# Altium footprint library WCAP-FTX2.PcbLib: 44 footprints (part 2 of 3)
Each footprint in its own frame and in the unit in brackets; x right, y up, seen from the top. Pads: shape width x height; smd on the part's side, far side on the other; paste and mask are expansions set on the pad; w line width, h text height; cw(c..) or ccw(c..) is an arc to the next point about the centre after c.
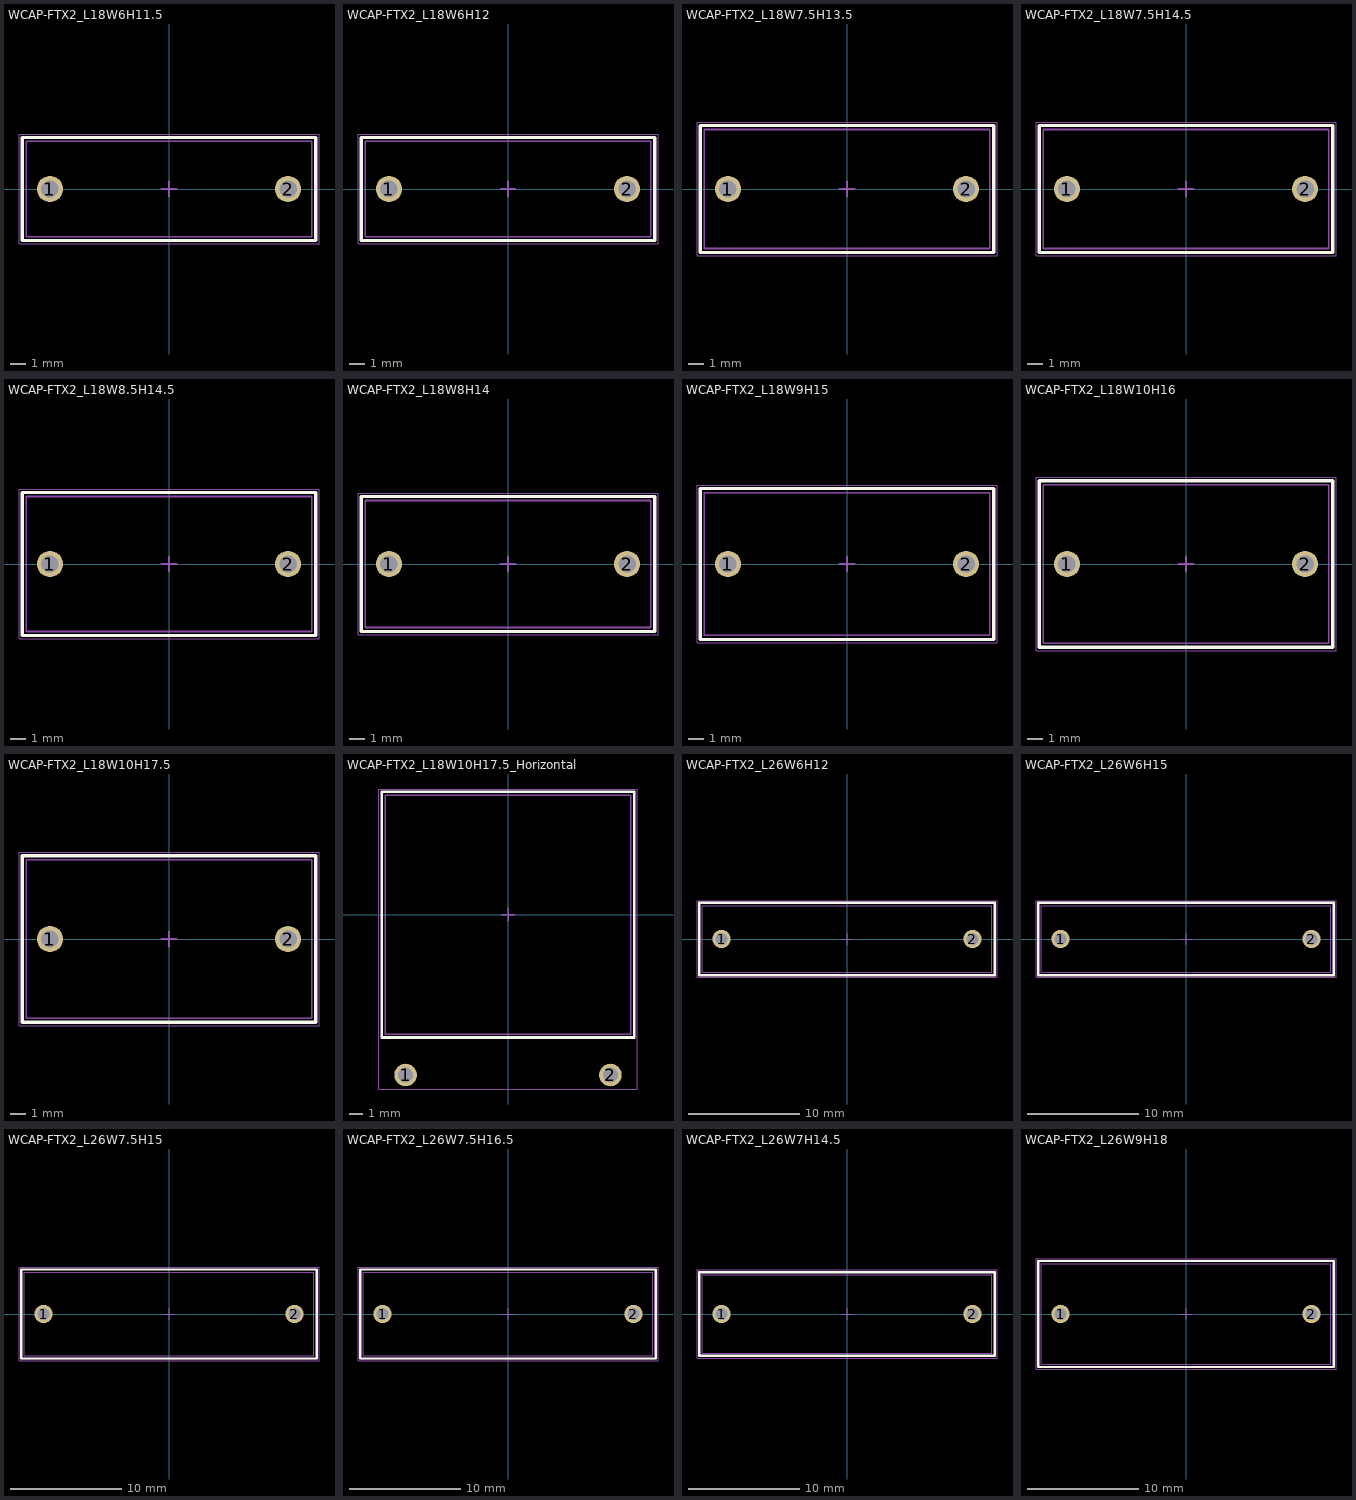
[diagram p1: the footprints below, top view; thin cyan lines are the x and y axes]

## WCAP-FTX2_L18W6H11.5 [mm] "Film Capacitors, 18x6x11.5mm"
height 11.5
pads (2):
  round 1.65 hole 1.1: 1(-7.5,0) 2(7.5,0)
Top Overlay:
  lines w0.2: -9.25,-3.25 9.25,-3.25 9.25,3.25 -9.25,3.25 -9.25,-3.25
Top Assembly:
  lines w0.1: -9.25,-3.25 9.25,-3.25 9.25,3.25 -9.25,3.25 -9.25,-3.25
Top Designator:
  text ".Designator" at -3.647,-0.357 h1
Top 3D Body:
  lines w0.1: -9,-3 9,-3 9,3 -9,3 -9,-3
Top Courtyard:
  lines w0.05: -9.45,-3.45 -9.45,3.45 9.45,3.45 9.45,-3.45 -9.45,-3.45
Top Component Center:
  lines w0.1: -0.5,0 0.5,0 ; 0,-0.5 0,0.5
3D body "15x18x6x11,5.stp": height 11.7, standoff -3.8, extent -9,-3 9,3

## WCAP-FTX2_L18W6H12 [mm] "Film Capacitors, 18x6x12mm"
height 12
pads (2):
  round 1.65 hole 1.1: 1(-7.5,0) 2(7.5,0)
Top Overlay:
  lines w0.2: -9.25,-3.25 -9.25,3.25 9.25,3.25 9.25,-3.25 -9.25,-3.25
Top Assembly:
  lines w0.1: -9.25,-3.25 -9.25,3.25 9.25,3.25 9.25,-3.25 -9.25,-3.25
Top Designator:
  text ".Designator" at -3.647,-0.357 h1
Top 3D Body:
  lines w0.1: -9,3 9,3 9,-3 -9,-3 -9,3
Top Courtyard:
  lines w0.05: -9.45,-3.45 -9.45,3.45 9.45,3.45 9.45,-3.45 -9.45,-3.45
Top Component Center:
  lines w0.1: -0.5,0 0.5,0 ; 0,-0.5 0,0.5
3D body "15x18x6x12.stp": height 12.2, standoff -3.8, extent -9,-3 9,3

## WCAP-FTX2_L18W7.5H13.5 [mm] "Film Capacitors, 18x7.5x13.5mm"
height 13.5
pads (2):
  round 1.65 hole 1.1: 1(-7.5,0) 2(7.5,0)
Top Overlay:
  lines w0.2: -9.25,-4 9.25,-4 9.25,4 -9.25,4 -9.25,-4
Top Assembly:
  lines w0.1: -9.25,-4 -9.25,4 9.25,4 9.25,-4 -9.25,-4
Top Designator:
  text ".Designator" at -3.647,-0.357 h1
Top 3D Body:
  lines w0.1: -9,-3.75 -9,3.75 9,3.75 9,-3.75 -9,-3.75
Top Courtyard:
  lines w0.05: -9.45,-4.2 9.45,-4.2 9.45,4.2 -9.45,4.2 -9.45,-4.2
Top Component Center:
  lines w0.1: -0.5,0 0.5,0 ; 0,-0.5 0,0.5
3D body "15x18x7,5x13,5.stp": height 13.7, standoff -3.8, extent -9,-3.75 9,3.75

## WCAP-FTX2_L18W7.5H14.5 [mm] "Film Capacitors, 18x7.5x14.5mm"
height 14.5
pads (2):
  round 1.65 hole 1.1: 1(-7.5,0) 2(7.5,0)
Top Overlay:
  lines w0.2: -9.25,-4 -9.25,4 9.25,4 9.25,-4 -9.25,-4
Top Assembly:
  lines w0.1: -9.25,-4 -9.25,4 9.25,4 9.25,-4 -9.25,-4
Top Designator:
  text ".Designator" at -3.647,-0.357 h1
Top 3D Body:
  lines w0.1: -9,-3.75 -9,3.75 9,3.75 9,-3.75 -9,-3.75
Top Courtyard:
  lines w0.05: -9.45,-4.2 -9.45,4.2 9.45,4.2 9.45,-4.2 -9.45,-4.2
Top Component Center:
  lines w0.1: -0.5,0 0.5,0 ; 0,-0.5 0,0.5
3D body "15x18x7,5x14,5.stp": height 14.7, standoff -3.8, extent -9,-3.75 9,3.75

## WCAP-FTX2_L18W8.5H14.5 [mm] "Film Capacitors, 18x8.5x14.5mm"
height 14.5
pads (2):
  round 1.65 hole 1.1: 1(-7.5,0) 2(7.5,0)
Top Overlay:
  lines w0.2: -9.25,-4.5 -9.25,4.5 9.25,4.5 9.25,-4.5 -9.25,-4.5
Top Assembly:
  lines w0.1: -9.25,-4.5 9.25,-4.5 9.25,4.5 -9.25,4.5 -9.25,-4.5
Top Designator:
  text ".Designator" at -3.647,-0.357 h1
Top 3D Body:
  lines w0.1: -9,-4.25 -9,4.25 9,4.25 9,-4.25 -9,-4.25
Top Courtyard:
  lines w0.05: -9.45,-4.7 -9.45,4.7 9.45,4.7 9.45,-4.7 -9.45,-4.7
Top Component Center:
  lines w0.1: -0.5,0 0.5,0 ; 0,-0.5 0,0.5
3D body "15x18x8,5x14,5.stp": height 14.7, standoff -3.8, extent -9,-4.25 9,4.25

## WCAP-FTX2_L18W8H14 [mm] "Film Capacitors, 18x8x14mm"
height 14
pads (2):
  round 1.65 hole 1.1: 1(-7.5,0) 2(7.5,0)
Top Overlay:
  lines w0.2: -9.25,-4.25 9.25,-4.25 9.25,4.25 -9.25,4.25 -9.25,-4.25
Top Assembly:
  lines w0.1: -9.25,-4.25 -9.25,4.25 9.25,4.25 9.25,-4.25 -9.25,-4.25
Top Designator:
  text ".Designator" at -3.647,-0.357 h1
Top 3D Body:
  lines w0.1: -9,-4 -9,4 9,4 9,-4 -9,-4
Top Courtyard:
  lines w0.05: -9.45,-4.45 9.45,-4.45 9.45,4.45 -9.45,4.45 -9.45,-4.45
Top Component Center:
  lines w0.1: -0.5,0 0.5,0 ; 0,-0.5 0,0.5
3D body "15x18x8x14.stp": height 14.2, standoff -3.8, extent -9,-4 9,4

## WCAP-FTX2_L18W9H15 [mm] "Film Capacitors, 18x9x15mm"
height 15
pads (2):
  round 1.65 hole 1.1: 1(-7.5,0) 2(7.5,0)
Top Overlay:
  lines w0.2: -9.25,-4.75 -9.25,4.75 9.25,4.75 9.25,-4.75 -9.25,-4.75
Top Assembly:
  lines w0.1: -9.25,-4.75 9.25,-4.75 9.25,4.75 -9.25,4.75 -9.25,-4.75
Top Designator:
  text ".Designator" at -3.647,-0.357 h1
Top 3D Body:
  lines w0.1: -9,-4.5 -9,4.5 9,4.5 9,-4.5 -9,-4.5
Top Courtyard:
  lines w0.05: -9.45,-4.95 -9.45,4.95 9.45,4.95 9.45,-4.95 -9.45,-4.95
Top Component Center:
  lines w0.1: -0.5,0 0.5,0 ; 0,-0.5 0,0.5
3D body "15x18x9x15.stp": height 15.2, standoff -3.8, extent -9,-4.5 9,4.5

## WCAP-FTX2_L18W10H16 [mm] "Film Capacitors, 18x10x16mm"
height 16
pads (2):
  round 1.65 hole 1.1: 1(-7.5,0) 2(7.5,0)
Top Overlay:
  lines w0.2: -9.25,-5.25 9.25,-5.25 9.25,5.25 -9.25,5.25 -9.25,-5.25
Top Assembly:
  lines w0.1: -9.25,-5.25 9.25,-5.25 9.25,5.25 -9.25,5.25 -9.25,-5.25
Top Designator:
  text ".Designator" at -3.647,-0.357 h1
Top 3D Body:
  lines w0.1: -9,-5 9,-5 9,5 -9,5 -9,-5
Top Courtyard:
  lines w0.05: -9.45,-5.45 9.45,-5.45 9.45,5.45 -9.45,5.45 -9.45,-5.45
Top Component Center:
  lines w0.1: -0.5,0 0.5,0 ; 0,-0.5 0,0.5
3D body "15x18x10x16.stp": height 16.2, standoff -3.8, extent -9,-5 9,5

## WCAP-FTX2_L18W10H17.5 [mm] "Film Capacitors, 18x10x17.5mm"
height 17.5
pads (2):
  round 1.65 hole 1.1: 1(-7.5,0) 2(7.5,0)
Top Overlay:
  lines w0.2: -9.25,-5.25 -9.25,5.25 9.25,5.25 9.25,-5.25 -9.25,-5.25
Top Assembly:
  lines w0.1: -9.25,-5.25 9.25,-5.25 9.25,5.25 -9.25,5.25 -9.25,-5.25
Top Designator:
  text ".Designator" at -3.647,-0.357 h1
Top 3D Body:
  lines w0.1: -9,-5 9,-5 9,5 -9,5 -9,-5
Top Courtyard:
  lines w0.05: -9.45,-5.45 -9.45,5.45 9.45,5.45 9.45,-5.45 -9.45,-5.45
Top Component Center:
  lines w0.1: -0.5,0 0.5,0 ; 0,-0.5 0,0.5
3D body "15x18x10x17,5.stp": height 17.7, standoff -3.8, extent -9,-5 9,5

## WCAP-FTX2_L18W10H17.5_Horizontal [mm] "Film Capacitors, 18x10x17.5mm"
height 10
pads (2):
  round 1.65 hole 1.1: 1(-7.5,-11.75) 2(7.5,-11.75)
Top Overlay:
  lines w0.2: -9.25,-9 9.25,-9 9.25,9 -9.25,9 -9.25,-9
Top Assembly:
  lines w0.1: -9.25,-9 -9.25,9 9.25,9 9.25,-9 -9.25,-9
Top Designator:
  text ".Designator" at -3.647,-0.357 h1
Top 3D Body:
  lines w0.1: -9,-8.75 -9,8.75 9,8.75 9,-8.75 -9,-8.75
Top Courtyard:
  lines w0.05: -9.45,-12.775 9.45,-12.775 9.45,9.2 -9.45,9.2 -9.45,-12.775
Top Component Center:
  lines w0.1: -0.5,0 0.5,0 ; 0,-0.5 0,0.5
3D body "15x18x10x17,5.stp": height 10.1, standoff -2.4, extent -9,-12.15 9,8.75

## WCAP-FTX2_L26W6H12 [mm] "Film Capacitors, 26x6x12mm"
height 12
pads (2):
  round 1.65 hole 1.1: 1(-11.25,0) 2(11.25,0)
Top Overlay:
  lines w0.2: -13.25,-3.25 -13.25,3.25 13.25,3.25 13.25,-3.25 -13.25,-3.25
Top Assembly:
  lines w0.1: -13.25,-3.25 13.25,-3.25 13.25,3.25 -13.25,3.25 -13.25,-3.25
Top Designator:
  text ".Designator" at -3.647,-0.357 h1
Top 3D Body:
  lines w0.1: -13,-3 -13,3 13,3 13,-3 -13,-3
Top Courtyard:
  lines w0.05: -13.45,-3.45 -13.45,3.45 13.45,3.45 13.45,-3.45 -13.45,-3.45
Top Component Center:
  lines w0.1: -0.5,0 0.5,0 ; 0,-0.5 0,0.5
3D body "22,5x26x6x12.stp": height 12.2, standoff -3.8, extent -13,-3 13,3

## WCAP-FTX2_L26W6H15 [mm] "Film Capacitors, 26x6x15mm"
height 15
pads (2):
  round 1.65 hole 1.1: 1(-11.25,0) 2(11.25,0)
Top Overlay:
  lines w0.2: -13.25,-3.25 -13.25,3.25 13.25,3.25 13.25,-3.25 -13.25,-3.25
Top Assembly:
  lines w0.1: -13.25,-3.25 -13.25,3.25 13.25,3.25 13.25,-3.25 -13.25,-3.25
Top Designator:
  text ".Designator" at -3.647,-0.357 h1
Top 3D Body:
  lines w0.1: -13,-3 -13,3 13,3 13,-3 -13,-3
Top Courtyard:
  lines w0.05: -13.45,-3.45 -13.45,3.45 13.45,3.45 13.45,-3.45 -13.45,-3.45
Top Component Center:
  lines w0.1: -0.5,0 0.5,0 ; 0,-0.5 0,0.5
3D body "22,5x26x6x15.stp": height 15.2, standoff -3.8, extent -13,-3 13,3

## WCAP-FTX2_L26W7.5H15 [mm] "Film Capacitors, 26x7.5x15mm"
height 15
pads (2):
  round 1.65 hole 1.1: 1(-11.25,0) 2(11.25,0)
Top Overlay:
  lines w0.2: -13.25,-4 -13.25,4 13.25,4 13.25,-4 -13.25,-4
Top Assembly:
  lines w0.1: -13.25,-4 -13.25,4 13.25,4 13.25,-4 -13.25,-4
Top Designator:
  text ".Designator" at -3.647,-0.357 h1
Top 3D Body:
  lines w0.1: -13,-3.75 -13,3.75 13,3.75 13,-3.75 -13,-3.75
Top Courtyard:
  lines w0.05: -13.45,-4.2 -13.45,4.2 13.45,4.2 13.45,-4.2 -13.45,-4.2
Top Component Center:
  lines w0.1: -0.5,0 0.5,0 ; 0,-0.5 0,0.5
3D body "22,5x26x7,5x15.stp": height 15.2, standoff -3.8, extent -13,-3.75 13,3.75

## WCAP-FTX2_L26W7.5H16.5 [mm] "Film Capacitors, 26x7.5x16.5mm"
height 16.5
pads (2):
  round 1.65 hole 1.1: 1(-11.25,0) 2(11.25,0)
Top Overlay:
  lines w0.2: -13.25,-4 -13.25,4 13.25,4 13.25,-4 -13.25,-4
Top Assembly:
  lines w0.1: -13.25,-4 -13.25,4 13.25,4 13.25,-4 -13.25,-4
Top Designator:
  text ".Designator" at -3.647,-0.357 h1
Top 3D Body:
  lines w0.1: -13,-3.75 -13,3.75 13,3.75 13,-3.75 -13,-3.75
Top Courtyard:
  lines w0.05: -13.45,-4.2 -13.45,4.2 13.45,4.2 13.45,-4.2 -13.45,-4.2
Top Component Center:
  lines w0.1: -0.5,0 0.5,0 ; 0,-0.5 0,0.5
3D body "22,5x26x7,5x16,5.stp": height 16.7, standoff -3.8, extent -13,-3.75 13,3.75

## WCAP-FTX2_L26W7H14.5 [mm] "Film Capacitors, 26x7x14.5mm"
height 14.5
pads (2):
  round 1.65 hole 1.1: 1(-11.25,0) 2(11.25,0)
Top Overlay:
  lines w0.2: -13.25,-3.75 -13.25,3.75 13.25,3.75 13.25,-3.75 -13.25,-3.75
Top Assembly:
  lines w0.1: -13.25,-3.75 -13.25,3.75 13.25,3.75 13.25,-3.75 -13.25,-3.75
Top Designator:
  text ".Designator" at -3.647,-0.357 h1
Top 3D Body:
  lines w0.1: -13,-3.5 -13,3.5 13,3.5 13,-3.5 -13,-3.5
Top Courtyard:
  lines w0.05: -13.45,-3.95 -13.45,3.95 13.45,3.95 13.45,-3.95 -13.45,-3.95
Top Component Center:
  lines w0.1: -0.5,0 0.5,0 ; 0,-0.5 0,0.5
3D body "22,5x26x7x14,5.stp": height 14.7, standoff -3.8, extent -13,-3.5 13,3.5

## WCAP-FTX2_L26W9H18 [mm] "Film Capacitors, 26x9x18mm"
height 18
pads (2):
  round 1.65 hole 1.1: 1(-11.25,0) 2(11.25,0)
Top Overlay:
  lines w0.2: -13.25,-4.75 -13.25,4.75 13.25,4.75 13.25,-4.75 -13.25,-4.75
Top Assembly:
  lines w0.1: -13.25,-4.75 13.25,-4.75 13.25,4.75 -13.25,4.75 -13.25,-4.75
Top Designator:
  text ".Designator" at -3.647,-0.357 h1
Top 3D Body:
  lines w0.1: -13,-4.5 13,-4.5 13,4.5 -13,4.5 -13,-4.5
Top Courtyard:
  lines w0.05: -13.45,-4.95 -13.45,4.95 13.45,4.95 13.45,-4.95 -13.45,-4.95
Top Component Center:
  lines w0.1: -0.5,0 0.5,0 ; 0,-0.5 0,0.5
3D body "22,5x26x9x18.stp": height 18.2, standoff -3.8, extent -13,-4.5 13,4.5